# Altium integrated library Linear Technology PMIC-Switching Reg LTC1174-LTC3901.IntLib: 2647 symbols (part 233 of 310)
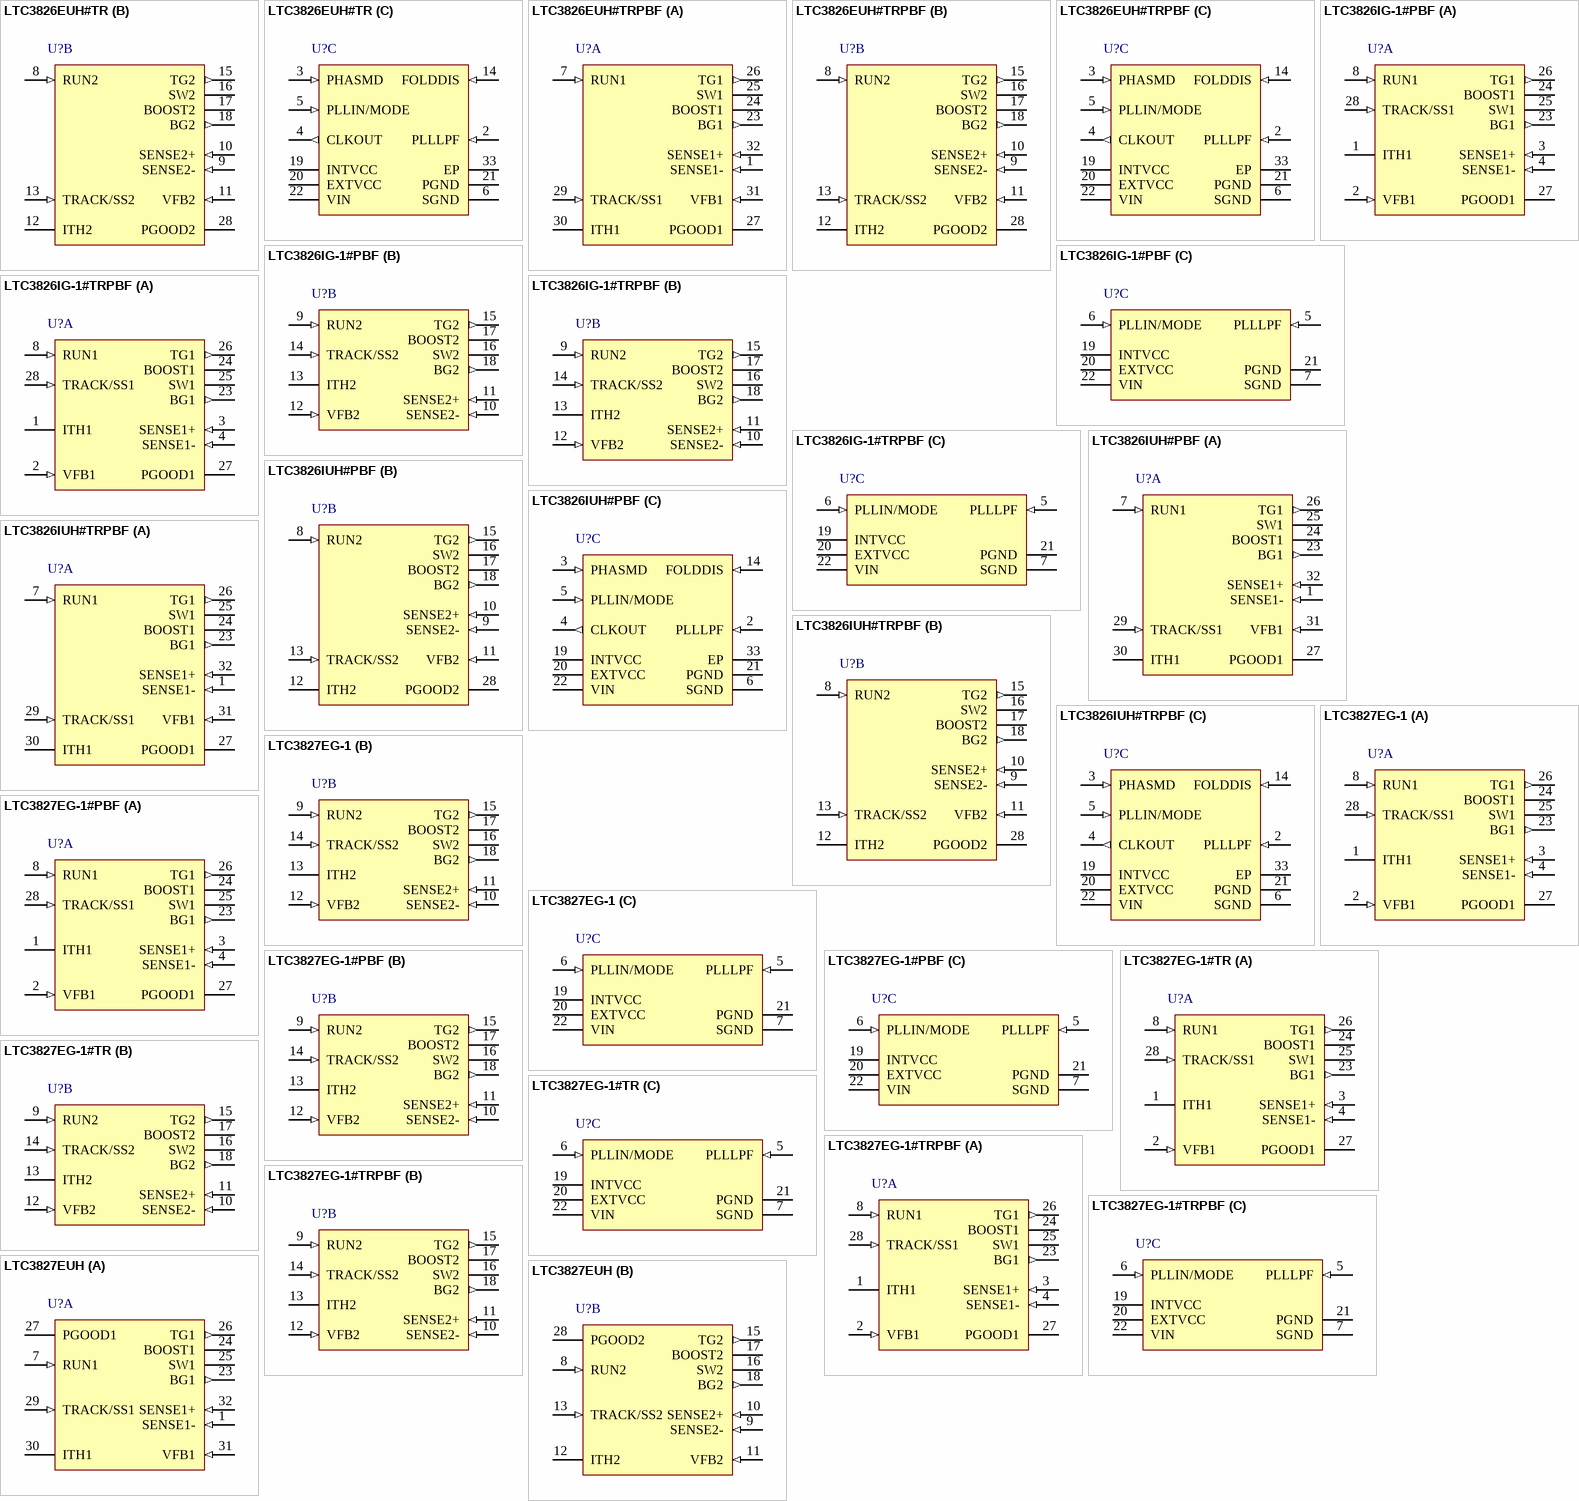
[diagram p252: symbols LTC3826EUH#TR to LTC3827EUH]

## LTC3826EUH#TR
designator U?
30 uA IQ, Dual, 2-Phase Synchronous Step-Down Controller, 32-pin QFN (UH-32), -40 to 85 degC, Tape and Reel; Manufacturer: Linear Technology; PartNumber: LTC3826EUH#TR; Number of Outputs: 2; PackageReference: UH-32; PackageDescription: 32-Pin Plastic QFN, Body 5 x 5 mm, Pitch 0.5 mm; RoHS: FALSE; Code_JEDEC: MO-220
footprint LT-UH-32_N (QFN, 32-Leads, Body 5.1x5.1mm, Pitch 0.5mm, Thermal Pad 3.45X3.45mm, IPC Medium Density)
footprint LT-UH-32_L (QFN, 32-Leads, Body 5.1x5.1mm, Pitch 0.5mm, Thermal Pad 3.45X3.45mm, IPC High Density)
footprint LT-UH-32_M (QFN, 32-Leads, Body 5.1x5.1mm, Pitch 0.5mm, Thermal Pad 3.45X3.45mm, IPC Low Density)
part A pins: 1 SENSE1- (in) "The (-) Input to the  Differential Current Comparators.", 7 RUN1 (in) "Digital Run Control Inputs for  Each Controller. Forcing either of these pins below 0.7V  shuts down that controller. Forcing both of these pins below  0.7V shuts down the entire LTC3826, reducing quiescent  current to (See Datasheet)", 23 BG1 (out) "High Current Gate Drives for Bottom (Synchronous) N-Channel MOSFETs. Voltage swing  at these pins is from ground to INTVCC.", 24 BOOST1 "Bootstrapped Supplies  to the Top Side Floating Drivers. Capacitors are connected  between the BOOST and SW pins and Schottky diodes are  tied between the BOOST and INTVCC pins. Voltage swing  at the BOOST pins is from (See Datasheet)", 25 SW1 "Switch Node Connections to  Inductors. Voltage swing at these pins is from a Schottky  diode (external) voltage drop below ground to VIN.", 26 TG1 (out) "High Current Gate Drives for  Top N-Channel MOSFETs. These are the outputs of ? oating drivers with a voltage swing equal to INTVCC - 0.5V  superimposed on the switch node voltage SW.", 27 PGOOD1 (oc) "Open-Drain Logic Output. PGOOD1 is  pulled to ground when the voltage on the VFB1 pin is not  within +/-10% of its set point.", 29 TRACK/SS1 (in) "External Tracking and Soft-Start Input. The LTC3826 regulates the  VFB1,2 voltage to the smaller of 0.8V or the voltage on the  TRACK/SS1,2 pin. An internal 1uA pull-up current source  is connected to this pin. A capacitor (See Datasheet)", 30 ITH1 "Error Ampli?er Outputs and  Switching Regulator Compensation Points. Each associated channel’s current comparator trip point increases  with this control voltage.", 31 VFB1 (in) "Receives the remotely sensed  feedback voltage for each controller from an external  resistive divider across the output.", 32 SENSE1+ (in) "The (+) Input to the  Differential Current Comparators. The ITH pin voltage and  controlled offsets between the SENSE-  and SENSE+  pins in  conjunction with RSENSE set the current trip threshold."
part B pins: 8 RUN2 (in) "Digital Run Control Inputs for  Each Controller. Forcing either of these pins below 0.7V  shuts down that controller. Forcing both of these pins below  0.7V shuts down the entire LTC3826, reducing quiescent  current to (See Datasheet)", 9 SENSE2- (in) "The (-) Input to the  Differential Current Comparators.", 10 SENSE2+ (in) "The (+) Input to the  Differential Current Comparators. The ITH pin voltage and  controlled offsets between the SENSE-  and SENSE+  pins in  conjunction with RSENSE set the current trip threshold.", 11 VFB2 (in) "Receives the remotely sensed  feedback voltage for each controller from an external  resistive divider across the output.", 12 ITH2 "Error Ampli?er Outputs and  Switching Regulator Compensation Points. Each associated channel’s current comparator trip point increases  with this control voltage.", 13 TRACK/SS2 (in) "External Tracking and Soft-Start Input. The LTC3826 regulates the  VFB1,2 voltage to the smaller of 0.8V or the voltage on the  TRACK/SS1,2 pin. An internal 1uA pull-up current source  is connected to this pin. A capacitor (See Datasheet)", 15 TG2 (out) "High Current Gate Drives for  Top N-Channel MOSFETs. These are the outputs of ? oating drivers with a voltage swing equal to INTVCC - 0.5V  superimposed on the switch node voltage SW.", 16 SW2 "Switch Node Connections to  Inductors. Voltage swing at these pins is from a Schottky  diode (external) voltage drop below ground to VIN.", 17 BOOST2 "Bootstrapped Supplies  to the Top Side Floating Drivers. Capacitors are connected  between the BOOST and SW pins and Schottky diodes are  tied between the BOOST and INTVCC pins. Voltage swing  at the BOOST pins is from (See Datasheet)", 18 BG2 (out) "High Current Gate Drives for Bottom (Synchronous) N-Channel MOSFETs. Voltage swing  at these pins is from ground to INTVCC.", 28 PGOOD2 (oc) "Open-Drain Logic Output. PGOOD2  is pulled to ground when the voltage on VFB2 pin is not  within +/-10% of its set point"
part C pins: 2 PLLLPF (in) "The phase-locked loop’s lowpass ? lter is  tied to this pin when synchronizing to an external clock.  Alternatively, tie this pin to GND, INTVCC or leave ? oating to  select 250kHz, 530kHz or 390kHz switching frequency.", 3 PHASMD (in) "Control Input to Phase Selector which  determines the phase relationships between controller 1,  controller 2 and the CLKOUT signal.", 4 CLKOUT (out) "Output Clock Signal available to daisychain other controller ICs for additional MOSFET driver  stages/phases.", 5 PLLIN/MODE (in) "External Synchronization Input to  Phase Detector and Forced Continuous Control Input. When  an external clock is applied to this pin, the phase-locked  loop will force the rising TG1 signal to be synchronized  with the (See Datasheet)", 6 SGND (power) "Small Signal Ground common to both  controllers, must be routed separately from high current  grounds to the common (-) terminals of the CIN capacitors. The Exposed Pad is SGND. It must be soldered to  PCB ground for rated (See Datasheet)", 14 FOLDDIS (in) "Foldback Current Disable Input Pin.  Driving this pin high (to INTVCC) disables foldback current  limiting during short-circuit or overcurrent conditions.", 19 INTVCC (power) "Output of the Internal Linear Low Dropout  Regulator. The driver and control circuits are powered  from this voltage source. Must be decoupled to power  ground with a minimum of 4.7uF tantalum or other low  ESR capacitor.", 20 EXTVCC (power) "External Power Input to an Internal LDO  Connected to INTVCC. This LDO supplies INTVCC power,  bypassing the internal LDO powered from VIN whenever  EXTVCC is higher than 4.7V. See EXTVCC Connection in  the Applications (See Datasheet)", 21 PGND (power) "Driver Power Ground. Connects to the  sources of bottom (synchronous) N-channel MOSFETs,  anodes of the Schottky recti? ers and the (-) terminal(s)  of CIN.", 22 VIN (power) "Main Supply Pin. A bypass capacitor should  be tied between this pin and the signal ground pin.", 33 EP (power) "Small Signal Ground common to both  controllers, must be routed separately from high current  grounds to the common (-) terminals of the CIN capacitors. The Exposed Pad is SGND. It must be soldered to  PCB ground for rated (See Datasheet)"

## LTC3826EUH#TRPBF
designator U?
30 uA IQ, Dual, 2-Phase Synchronous Step-Down Controller, 32-pin QFN (UH-32), -40 to 85 degC, Pb-Free, Tape and Reel; Manufacturer: Linear Technology; PartNumber: LTC3826EUH#TRPBF; Number of Outputs: 2; PackageReference: UH-32; PackageDescription: 32-Pin Plastic QFN, Body 5 x 5 mm, Pitch 0.5 mm; Supplier 1: Digi-Key; Supplier Part Number 1: LTC3826EUH#TRPBF-ND; RoHS: TRUE; Code_JEDEC: MO-220
footprint LT-UH-32_N (QFN, 32-Leads, Body 5.1x5.1mm, Pitch 0.5mm, Thermal Pad 3.45X3.45mm, IPC Medium Density)
footprint LT-UH-32_L (QFN, 32-Leads, Body 5.1x5.1mm, Pitch 0.5mm, Thermal Pad 3.45X3.45mm, IPC High Density)
footprint LT-UH-32_M (QFN, 32-Leads, Body 5.1x5.1mm, Pitch 0.5mm, Thermal Pad 3.45X3.45mm, IPC Low Density)
part A pins: 1 SENSE1- (in) "The (-) Input to the  Differential Current Comparators.", 7 RUN1 (in) "Digital Run Control Inputs for  Each Controller. Forcing either of these pins below 0.7V  shuts down that controller. Forcing both of these pins below  0.7V shuts down the entire LTC3826, reducing quiescent  current to (See Datasheet)", 23 BG1 (out) "High Current Gate Drives for Bottom (Synchronous) N-Channel MOSFETs. Voltage swing  at these pins is from ground to INTVCC.", 24 BOOST1 "Bootstrapped Supplies  to the Top Side Floating Drivers. Capacitors are connected  between the BOOST and SW pins and Schottky diodes are  tied between the BOOST and INTVCC pins. Voltage swing  at the BOOST pins is from (See Datasheet)", 25 SW1 "Switch Node Connections to  Inductors. Voltage swing at these pins is from a Schottky  diode (external) voltage drop below ground to VIN.", 26 TG1 (out) "High Current Gate Drives for  Top N-Channel MOSFETs. These are the outputs of ? oating drivers with a voltage swing equal to INTVCC - 0.5V  superimposed on the switch node voltage SW.", 27 PGOOD1 (oc) "Open-Drain Logic Output. PGOOD1 is  pulled to ground when the voltage on the VFB1 pin is not  within +/-10% of its set point.", 29 TRACK/SS1 (in) "External Tracking and Soft-Start Input. The LTC3826 regulates the  VFB1,2 voltage to the smaller of 0.8V or the voltage on the  TRACK/SS1,2 pin. An internal 1uA pull-up current source  is connected to this pin. A capacitor (See Datasheet)", 30 ITH1 "Error Ampli?er Outputs and  Switching Regulator Compensation Points. Each associated channel’s current comparator trip point increases  with this control voltage.", 31 VFB1 (in) "Receives the remotely sensed  feedback voltage for each controller from an external  resistive divider across the output.", 32 SENSE1+ (in) "The (+) Input to the  Differential Current Comparators. The ITH pin voltage and  controlled offsets between the SENSE-  and SENSE+  pins in  conjunction with RSENSE set the current trip threshold."
part B pins: 8 RUN2 (in) "Digital Run Control Inputs for  Each Controller. Forcing either of these pins below 0.7V  shuts down that controller. Forcing both of these pins below  0.7V shuts down the entire LTC3826, reducing quiescent  current to (See Datasheet)", 9 SENSE2- (in) "The (-) Input to the  Differential Current Comparators.", 10 SENSE2+ (in) "The (+) Input to the  Differential Current Comparators. The ITH pin voltage and  controlled offsets between the SENSE-  and SENSE+  pins in  conjunction with RSENSE set the current trip threshold.", 11 VFB2 (in) "Receives the remotely sensed  feedback voltage for each controller from an external  resistive divider across the output.", 12 ITH2 "Error Ampli?er Outputs and  Switching Regulator Compensation Points. Each associated channel’s current comparator trip point increases  with this control voltage.", 13 TRACK/SS2 (in) "External Tracking and Soft-Start Input. The LTC3826 regulates the  VFB1,2 voltage to the smaller of 0.8V or the voltage on the  TRACK/SS1,2 pin. An internal 1uA pull-up current source  is connected to this pin. A capacitor (See Datasheet)", 15 TG2 (out) "High Current Gate Drives for  Top N-Channel MOSFETs. These are the outputs of ? oating drivers with a voltage swing equal to INTVCC - 0.5V  superimposed on the switch node voltage SW.", 16 SW2 "Switch Node Connections to  Inductors. Voltage swing at these pins is from a Schottky  diode (external) voltage drop below ground to VIN.", 17 BOOST2 "Bootstrapped Supplies  to the Top Side Floating Drivers. Capacitors are connected  between the BOOST and SW pins and Schottky diodes are  tied between the BOOST and INTVCC pins. Voltage swing  at the BOOST pins is from (See Datasheet)", 18 BG2 (out) "High Current Gate Drives for Bottom (Synchronous) N-Channel MOSFETs. Voltage swing  at these pins is from ground to INTVCC.", 28 PGOOD2 (oc) "Open-Drain Logic Output. PGOOD2  is pulled to ground when the voltage on VFB2 pin is not  within +/-10% of its set point"
part C pins: 2 PLLLPF (in) "The phase-locked loop’s lowpass ? lter is  tied to this pin when synchronizing to an external clock.  Alternatively, tie this pin to GND, INTVCC or leave ? oating to  select 250kHz, 530kHz or 390kHz switching frequency.", 3 PHASMD (in) "Control Input to Phase Selector which  determines the phase relationships between controller 1,  controller 2 and the CLKOUT signal.", 4 CLKOUT (out) "Output Clock Signal available to daisychain other controller ICs for additional MOSFET driver  stages/phases.", 5 PLLIN/MODE (in) "External Synchronization Input to  Phase Detector and Forced Continuous Control Input. When  an external clock is applied to this pin, the phase-locked  loop will force the rising TG1 signal to be synchronized  with the (See Datasheet)", 6 SGND (power) "Small Signal Ground common to both  controllers, must be routed separately from high current  grounds to the common (-) terminals of the CIN capacitors. The Exposed Pad is SGND. It must be soldered to  PCB ground for rated (See Datasheet)", 14 FOLDDIS (in) "Foldback Current Disable Input Pin.  Driving this pin high (to INTVCC) disables foldback current  limiting during short-circuit or overcurrent conditions.", 19 INTVCC (power) "Output of the Internal Linear Low Dropout  Regulator. The driver and control circuits are powered  from this voltage source. Must be decoupled to power  ground with a minimum of 4.7uF tantalum or other low  ESR capacitor.", 20 EXTVCC (power) "External Power Input to an Internal LDO  Connected to INTVCC. This LDO supplies INTVCC power,  bypassing the internal LDO powered from VIN whenever  EXTVCC is higher than 4.7V. See EXTVCC Connection in  the Applications (See Datasheet)", 21 PGND (power) "Driver Power Ground. Connects to the  sources of bottom (synchronous) N-channel MOSFETs,  anodes of the Schottky recti? ers and the (-) terminal(s)  of CIN.", 22 VIN (power) "Main Supply Pin. A bypass capacitor should  be tied between this pin and the signal ground pin.", 33 EP (power) "Small Signal Ground common to both  controllers, must be routed separately from high current  grounds to the common (-) terminals of the CIN capacitors. The Exposed Pad is SGND. It must be soldered to  PCB ground for rated (See Datasheet)"

## LTC3826IG-1#PBF
designator U?
30 uA IQ, Dual, 2-Phase Synchronous Step-Down Controller, 28-pin SOP (G-28), -40 to 85 degC, Pb-Free; Manufacturer: Linear Technology; PartNumber: LTC3826IG-1#PBF; Number of Outputs: 2; PackageReference: G-28; PackageDescription: 28-Pin Plastic SSOP, Body 10.2 x 5.3 mm, Pitch 0.65 mm; Supplier 1: Digi-Key; Supplier Part Number 1: LTC3826IG-1#PBF-ND; RoHS: TRUE
footprint LT-G-28_N (SOP, 28-Leads, Body 10.2x5.3mm, Pitch 0.65mm, IPC Medium Density)
footprint LT-G-28_L (SOP, 28-Leads, Body 10.2x5.3mm, Pitch 0.65mm, IPC High Density)
footprint LT-G-28_M (SOP, 28-Leads, Body 10.2x5.3mm, Pitch 0.65mm, IPC Low Density)
part A pins: 1 ITH1 "Error Amplifier Outputs and Switching Regulator Compensation Points. Each associated channel’s current comparator trip point increases with this control voltage.", 2 VFB1 (in) "Receives the remotely sensed feedback voltage for each controller from an external resistive divider across the output.", 3 SENSE1+ (in) "The (+) Input to the Differential Current Comparators. The ITH pin voltage and controlled offsets between the SENSE- and SENSE+ pins in conjunction with RSENSE set the current trip threshold.", 4 SENSE1- (in) "The (-) Input to the Differential Current Comparators.", 8 RUN1 (in) "Digital Run Control Inputs for Each Controller. Forcing either of these pins below 0.7V shuts down that controller.", 23 BG1 (out) "High Current Gate Drives for Bottom (Synchronous) N-Channel MOSFETs. Voltage swing at these pins is from ground to INTVCC.", 24 BOOST1 "Bootstrapped Supplies to the Topside Floating Drivers. Capacitors are connected between the BOOST and SW pins and Schottky diodes are tied between the BOOST and INTVCC pins. Voltage swing at the BOOST pins is from INTVCC to (See Datasheet)", 25 SW1 "Switch Node Connections to Inductors. Voltage swing at these pins is from a Schottky diode (external) voltage drop below ground to VIN.", 26 TG1 (out) "High Current Gate Drives for Top N-Channel MOSFETs. These are the outputs of floating drivers with a voltage swing equal to INTVCC - 0.5V superimposed on the switch node voltage SW.", 27 PGOOD1 (oc) "Open-Drain Logic Output. PGOOD1 is pulled to ground when the voltage on the VFB1 pin is not within +/-10% of its set point.", 28 TRACK/SS1 (in) "External Tracking and Soft-Start Input."
part B pins: 9 RUN2 (in) "Digital Run Control Inputs for Each Controller. Forcing either of these pins below 0.7V shuts down that controller.", 10 SENSE2- (in) "The (-) Input to the Differential Current Comparators.", 11 SENSE2+ (in) "The (+) Input to the Differential Current Comparators. The ITH pin voltage and controlled offsets between the SENSE- and SENSE+ pins in conjunction with RSENSE set the current trip threshold.", 12 VFB2 (in) "Receives the remotely sensed feedback voltage for each controller from an external resistive divider across the output.", 13 ITH2 "Error Amplifier Outputs and Switching Regulator Compensation Points. Each associated channel’s current comparator trip point increases with this control voltage.", 14 TRACK/SS2 (in) "External Tracking and Soft-Start Input.", 15 TG2 (out) "High Current Gate Drives for Top N-Channel MOSFETs. These are the outputs of floating drivers with a voltage swing equal to INTVCC - 0.5V superimposed on the switch node voltage SW.", 16 SW2 "Switch Node Connections to Inductors. Voltage swing at these pins is from a Schottky diode (external) voltage drop below ground to VIN.", 17 BOOST2 "Bootstrapped Supplies to the Topside Floating Drivers. Capacitors are connected between the BOOST and SW pins and Schottky diodes are tied between the BOOST and INTVCC pins. Voltage swing at the BOOST pins is from INTVCC to (See Datasheet)", 18 BG2 (out) "High Current Gate Drives for Bottom (Synchronous) N-Channel MOSFETs. Voltage swing at these pins is from ground to INTVCC."
part C pins: 5 PLLLPF (in) "The phase-locked loop’s lowpass filter is tied to this pin when synchronizing to an external clock.", 6 PLLIN/MODE (in) "External Synchronization Input to Phase Detector and Forced Continuous Control Input.", 7 SGND (power) "Small-signal Ground common to both controllers, must be routed separately from high current grounds to the common (-) terminals of the CIN capacitors.", 19 INTVCC (power) "Output of the Internal Linear Low Dropout Regulator. The driver and control circuits are powered from this voltage source. Must be decoupled to power ground with a minimum of 4.7uF tantalum or other low ESR capacitor.", 20 EXTVCC (power) "External Power Input to an Internal LDO Connected to INTVCC. This LDO supplies INTVCC power, bypassing the internal LDO powered from VIN whenever EXTVCC is higher than 4.7V. See EXTVCC Connection in the Applications (See Datasheet)", 21 PGND (power) "Driver Power Ground. Connects to the sources of bottom (synchronous) N-channel MOSFETs, anodes of the Schottky rectifi ers and the (-) terminal(s) of CIN.", 22 VIN (power) "Main Supply Pin. A bypass capacitor should be tied between this pin and the signal ground pin."

## LTC3826IG-1#TRPBF
designator U?
30 uA IQ, Dual, 2-Phase Synchronous Step-Down Controller, 28-pin SOP (G-28), -40 to 85 degC, Pb-Free, Tape and Reel; Manufacturer: Linear Technology; PartNumber: LTC3826IG-1#TRPBF; Number of Outputs: 2; PackageReference: G-28; PackageDescription: 28-Pin Plastic SSOP, Body 10.2 x 5.3 mm, Pitch 0.65 mm; Supplier 1: Digi-Key; Supplier Part Number 1: LTC3826IG-1#TRPBF-ND; RoHS: TRUE
footprint LT-G-28_N (SOP, 28-Leads, Body 10.2x5.3mm, Pitch 0.65mm, IPC Medium Density)
footprint LT-G-28_L (SOP, 28-Leads, Body 10.2x5.3mm, Pitch 0.65mm, IPC High Density)
footprint LT-G-28_M (SOP, 28-Leads, Body 10.2x5.3mm, Pitch 0.65mm, IPC Low Density)
part A pins: 1 ITH1 "Error Amplifier Outputs and Switching Regulator Compensation Points. Each associated channel’s current comparator trip point increases with this control voltage.", 2 VFB1 (in) "Receives the remotely sensed feedback voltage for each controller from an external resistive divider across the output.", 3 SENSE1+ (in) "The (+) Input to the Differential Current Comparators. The ITH pin voltage and controlled offsets between the SENSE- and SENSE+ pins in conjunction with RSENSE set the current trip threshold.", 4 SENSE1- (in) "The (-) Input to the Differential Current Comparators.", 8 RUN1 (in) "Digital Run Control Inputs for Each Controller. Forcing either of these pins below 0.7V shuts down that controller.", 23 BG1 (out) "High Current Gate Drives for Bottom (Synchronous) N-Channel MOSFETs. Voltage swing at these pins is from ground to INTVCC.", 24 BOOST1 "Bootstrapped Supplies to the Topside Floating Drivers. Capacitors are connected between the BOOST and SW pins and Schottky diodes are tied between the BOOST and INTVCC pins. Voltage swing at the BOOST pins is from INTVCC to (See Datasheet)", 25 SW1 "Switch Node Connections to Inductors. Voltage swing at these pins is from a Schottky diode (external) voltage drop below ground to VIN.", 26 TG1 (out) "High Current Gate Drives for Top N-Channel MOSFETs. These are the outputs of floating drivers with a voltage swing equal to INTVCC - 0.5V superimposed on the switch node voltage SW.", 27 PGOOD1 (oc) "Open-Drain Logic Output. PGOOD1 is pulled to ground when the voltage on the VFB1 pin is not within +/-10% of its set point.", 28 TRACK/SS1 (in) "External Tracking and Soft-Start Input."
part B pins: 9 RUN2 (in) "Digital Run Control Inputs for Each Controller. Forcing either of these pins below 0.7V shuts down that controller.", 10 SENSE2- (in) "The (-) Input to the Differential Current Comparators.", 11 SENSE2+ (in) "The (+) Input to the Differential Current Comparators. The ITH pin voltage and controlled offsets between the SENSE- and SENSE+ pins in conjunction with RSENSE set the current trip threshold.", 12 VFB2 (in) "Receives the remotely sensed feedback voltage for each controller from an external resistive divider across the output.", 13 ITH2 "Error Amplifier Outputs and Switching Regulator Compensation Points. Each associated channel’s current comparator trip point increases with this control voltage.", 14 TRACK/SS2 (in) "External Tracking and Soft-Start Input.", 15 TG2 (out) "High Current Gate Drives for Top N-Channel MOSFETs. These are the outputs of floating drivers with a voltage swing equal to INTVCC - 0.5V superimposed on the switch node voltage SW.", 16 SW2 "Switch Node Connections to Inductors. Voltage swing at these pins is from a Schottky diode (external) voltage drop below ground to VIN.", 17 BOOST2 "Bootstrapped Supplies to the Topside Floating Drivers. Capacitors are connected between the BOOST and SW pins and Schottky diodes are tied between the BOOST and INTVCC pins. Voltage swing at the BOOST pins is from INTVCC to (See Datasheet)", 18 BG2 (out) "High Current Gate Drives for Bottom (Synchronous) N-Channel MOSFETs. Voltage swing at these pins is from ground to INTVCC."
part C pins: 5 PLLLPF (in) "The phase-locked loop’s lowpass filter is tied to this pin when synchronizing to an external clock.", 6 PLLIN/MODE (in) "External Synchronization Input to Phase Detector and Forced Continuous Control Input.", 7 SGND (power) "Small-signal Ground common to both controllers, must be routed separately from high current grounds to the common (-) terminals of the CIN capacitors.", 19 INTVCC (power) "Output of the Internal Linear Low Dropout Regulator. The driver and control circuits are powered from this voltage source. Must be decoupled to power ground with a minimum of 4.7uF tantalum or other low ESR capacitor.", 20 EXTVCC (power) "External Power Input to an Internal LDO Connected to INTVCC. This LDO supplies INTVCC power, bypassing the internal LDO powered from VIN whenever EXTVCC is higher than 4.7V. See EXTVCC Connection in the Applications (See Datasheet)", 21 PGND (power) "Driver Power Ground. Connects to the sources of bottom (synchronous) N-channel MOSFETs, anodes of the Schottky rectifi ers and the (-) terminal(s) of CIN.", 22 VIN (power) "Main Supply Pin. A bypass capacitor should be tied between this pin and the signal ground pin."

## LTC3826IUH#PBF
designator U?
30 uA IQ, Dual, 2-Phase Synchronous Step-Down Controller, 32-pin QFN (UH-32), -40 to 85 degC, Pb-Free; Manufacturer: Linear Technology; PartNumber: LTC3826IUH#PBF; Number of Outputs: 2; PackageReference: UH-32; PackageDescription: 32-Pin Plastic QFN, Body 5 x 5 mm, Pitch 0.5 mm; Supplier 1: Digi-Key; Supplier Part Number 1: LTC3826IUH#PBF-ND; RoHS: TRUE; Code_JEDEC: MO-220
footprint LT-UH-32_N (QFN, 32-Leads, Body 5.1x5.1mm, Pitch 0.5mm, Thermal Pad 3.45X3.45mm, IPC Medium Density)
footprint LT-UH-32_L (QFN, 32-Leads, Body 5.1x5.1mm, Pitch 0.5mm, Thermal Pad 3.45X3.45mm, IPC High Density)
footprint LT-UH-32_M (QFN, 32-Leads, Body 5.1x5.1mm, Pitch 0.5mm, Thermal Pad 3.45X3.45mm, IPC Low Density)
part A pins: 1 SENSE1- (in) "The (-) Input to the  Differential Current Comparators.", 7 RUN1 (in) "Digital Run Control Inputs for  Each Controller. Forcing either of these pins below 0.7V  shuts down that controller. Forcing both of these pins below  0.7V shuts down the entire LTC3826, reducing quiescent  current to (See Datasheet)", 23 BG1 (out) "High Current Gate Drives for Bottom (Synchronous) N-Channel MOSFETs. Voltage swing  at these pins is from ground to INTVCC.", 24 BOOST1 "Bootstrapped Supplies  to the Top Side Floating Drivers. Capacitors are connected  between the BOOST and SW pins and Schottky diodes are  tied between the BOOST and INTVCC pins. Voltage swing  at the BOOST pins is from (See Datasheet)", 25 SW1 "Switch Node Connections to  Inductors. Voltage swing at these pins is from a Schottky  diode (external) voltage drop below ground to VIN.", 26 TG1 (out) "High Current Gate Drives for  Top N-Channel MOSFETs. These are the outputs of ? oating drivers with a voltage swing equal to INTVCC - 0.5V  superimposed on the switch node voltage SW.", 27 PGOOD1 (oc) "Open-Drain Logic Output. PGOOD1 is  pulled to ground when the voltage on the VFB1 pin is not  within +/-10% of its set point.", 29 TRACK/SS1 (in) "External Tracking and Soft-Start Input. The LTC3826 regulates the  VFB1,2 voltage to the smaller of 0.8V or the voltage on the  TRACK/SS1,2 pin. An internal 1uA pull-up current source  is connected to this pin. A capacitor (See Datasheet)", 30 ITH1 "Error Ampli?er Outputs and  Switching Regulator Compensation Points. Each associated channel’s current comparator trip point increases  with this control voltage.", 31 VFB1 (in) "Receives the remotely sensed  feedback voltage for each controller from an external  resistive divider across the output.", 32 SENSE1+ (in) "The (+) Input to the  Differential Current Comparators. The ITH pin voltage and  controlled offsets between the SENSE-  and SENSE+  pins in  conjunction with RSENSE set the current trip threshold."
part B pins: 8 RUN2 (in) "Digital Run Control Inputs for  Each Controller. Forcing either of these pins below 0.7V  shuts down that controller. Forcing both of these pins below  0.7V shuts down the entire LTC3826, reducing quiescent  current to (See Datasheet)", 9 SENSE2- (in) "The (-) Input to the  Differential Current Comparators.", 10 SENSE2+ (in) "The (+) Input to the  Differential Current Comparators. The ITH pin voltage and  controlled offsets between the SENSE-  and SENSE+  pins in  conjunction with RSENSE set the current trip threshold.", 11 VFB2 (in) "Receives the remotely sensed  feedback voltage for each controller from an external  resistive divider across the output.", 12 ITH2 "Error Ampli?er Outputs and  Switching Regulator Compensation Points. Each associated channel’s current comparator trip point increases  with this control voltage.", 13 TRACK/SS2 (in) "External Tracking and Soft-Start Input. The LTC3826 regulates the  VFB1,2 voltage to the smaller of 0.8V or the voltage on the  TRACK/SS1,2 pin. An internal 1uA pull-up current source  is connected to this pin. A capacitor (See Datasheet)", 15 TG2 (out) "High Current Gate Drives for  Top N-Channel MOSFETs. These are the outputs of ? oating drivers with a voltage swing equal to INTVCC - 0.5V  superimposed on the switch node voltage SW.", 16 SW2 "Switch Node Connections to  Inductors. Voltage swing at these pins is from a Schottky  diode (external) voltage drop below ground to VIN.", 17 BOOST2 "Bootstrapped Supplies  to the Top Side Floating Drivers. Capacitors are connected  between the BOOST and SW pins and Schottky diodes are  tied between the BOOST and INTVCC pins. Voltage swing  at the BOOST pins is from (See Datasheet)", 18 BG2 (out) "High Current Gate Drives for Bottom (Synchronous) N-Channel MOSFETs. Voltage swing  at these pins is from ground to INTVCC.", 28 PGOOD2 (oc) "Open-Drain Logic Output. PGOOD2  is pulled to ground when the voltage on VFB2 pin is not  within +/-10% of its set point"
part C pins: 2 PLLLPF (in) "The phase-locked loop’s lowpass ? lter is  tied to this pin when synchronizing to an external clock.  Alternatively, tie this pin to GND, INTVCC or leave ? oating to  select 250kHz, 530kHz or 390kHz switching frequency.", 3 PHASMD (in) "Control Input to Phase Selector which  determines the phase relationships between controller 1,  controller 2 and the CLKOUT signal.", 4 CLKOUT (out) "Output Clock Signal available to daisychain other controller ICs for additional MOSFET driver  stages/phases.", 5 PLLIN/MODE (in) "External Synchronization Input to  Phase Detector and Forced Continuous Control Input. When  an external clock is applied to this pin, the phase-locked  loop will force the rising TG1 signal to be synchronized  with the (See Datasheet)", 6 SGND (power) "Small Signal Ground common to both  controllers, must be routed separately from high current  grounds to the common (-) terminals of the CIN capacitors. The Exposed Pad is SGND. It must be soldered to  PCB ground for rated (See Datasheet)", 14 FOLDDIS (in) "Foldback Current Disable Input Pin.  Driving this pin high (to INTVCC) disables foldback current  limiting during short-circuit or overcurrent conditions.", 19 INTVCC (power) "Output of the Internal Linear Low Dropout  Regulator. The driver and control circuits are powered  from this voltage source. Must be decoupled to power  ground with a minimum of 4.7uF tantalum or other low  ESR capacitor.", 20 EXTVCC (power) "External Power Input to an Internal LDO  Connected to INTVCC. This LDO supplies INTVCC power,  bypassing the internal LDO powered from VIN whenever  EXTVCC is higher than 4.7V. See EXTVCC Connection in  the Applications (See Datasheet)", 21 PGND (power) "Driver Power Ground. Connects to the  sources of bottom (synchronous) N-channel MOSFETs,  anodes of the Schottky recti? ers and the (-) terminal(s)  of CIN.", 22 VIN (power) "Main Supply Pin. A bypass capacitor should  be tied between this pin and the signal ground pin.", 33 EP (power) "Small Signal Ground common to both  controllers, must be routed separately from high current  grounds to the common (-) terminals of the CIN capacitors. The Exposed Pad is SGND. It must be soldered to  PCB ground for rated (See Datasheet)"

## LTC3826IUH#TRPBF
designator U?
30 uA IQ, Dual, 2-Phase Synchronous Step-Down Controller, 32-pin QFN (UH-32), -40 to 85 degC, Pb-Free, Tape and Reel; Manufacturer: Linear Technology; PartNumber: LTC3826IUH#TRPBF; Number of Outputs: 2; PackageReference: UH-32; PackageDescription: 32-Pin Plastic QFN, Body 5 x 5 mm, Pitch 0.5 mm; Supplier 1: Digi-Key; Supplier Part Number 1: LTC3826IUH#TRPBF-ND; RoHS: TRUE; Code_JEDEC: MO-220
footprint LT-UH-32_N (QFN, 32-Leads, Body 5.1x5.1mm, Pitch 0.5mm, Thermal Pad 3.45X3.45mm, IPC Medium Density)
footprint LT-UH-32_L (QFN, 32-Leads, Body 5.1x5.1mm, Pitch 0.5mm, Thermal Pad 3.45X3.45mm, IPC High Density)
footprint LT-UH-32_M (QFN, 32-Leads, Body 5.1x5.1mm, Pitch 0.5mm, Thermal Pad 3.45X3.45mm, IPC Low Density)
part A pins: 1 SENSE1- (in) "The (-) Input to the  Differential Current Comparators.", 7 RUN1 (in) "Digital Run Control Inputs for  Each Controller. Forcing either of these pins below 0.7V  shuts down that controller. Forcing both of these pins below  0.7V shuts down the entire LTC3826, reducing quiescent  current to (See Datasheet)", 23 BG1 (out) "High Current Gate Drives for Bottom (Synchronous) N-Channel MOSFETs. Voltage swing  at these pins is from ground to INTVCC.", 24 BOOST1 "Bootstrapped Supplies  to the Top Side Floating Drivers. Capacitors are connected  between the BOOST and SW pins and Schottky diodes are  tied between the BOOST and INTVCC pins. Voltage swing  at the BOOST pins is from (See Datasheet)", 25 SW1 "Switch Node Connections to  Inductors. Voltage swing at these pins is from a Schottky  diode (external) voltage drop below ground to VIN.", 26 TG1 (out) "High Current Gate Drives for  Top N-Channel MOSFETs. These are the outputs of ? oating drivers with a voltage swing equal to INTVCC - 0.5V  superimposed on the switch node voltage SW.", 27 PGOOD1 (oc) "Open-Drain Logic Output. PGOOD1 is  pulled to ground when the voltage on the VFB1 pin is not  within +/-10% of its set point.", 29 TRACK/SS1 (in) "External Tracking and Soft-Start Input. The LTC3826 regulates the  VFB1,2 voltage to the smaller of 0.8V or the voltage on the  TRACK/SS1,2 pin. An internal 1uA pull-up current source  is connected to this pin. A capacitor (See Datasheet)", 30 ITH1 "Error Ampli?er Outputs and  Switching Regulator Compensation Points. Each associated channel’s current comparator trip point increases  with this control voltage.", 31 VFB1 (in) "Receives the remotely sensed  feedback voltage for each controller from an external  resistive divider across the output.", 32 SENSE1+ (in) "The (+) Input to the  Differential Current Comparators. The ITH pin voltage and  controlled offsets between the SENSE-  and SENSE+  pins in  conjunction with RSENSE set the current trip threshold."
part B pins: 8 RUN2 (in) "Digital Run Control Inputs for  Each Controller. Forcing either of these pins below 0.7V  shuts down that controller. Forcing both of these pins below  0.7V shuts down the entire LTC3826, reducing quiescent  current to (See Datasheet)", 9 SENSE2- (in) "The (-) Input to the  Differential Current Comparators.", 10 SENSE2+ (in) "The (+) Input to the  Differential Current Comparators. The ITH pin voltage and  controlled offsets between the SENSE-  and SENSE+  pins in  conjunction with RSENSE set the current trip threshold.", 11 VFB2 (in) "Receives the remotely sensed  feedback voltage for each controller from an external  resistive divider across the output.", 12 ITH2 "Error Ampli?er Outputs and  Switching Regulator Compensation Points. Each associated channel’s current comparator trip point increases  with this control voltage.", 13 TRACK/SS2 (in) "External Tracking and Soft-Start Input. The LTC3826 regulates the  VFB1,2 voltage to the smaller of 0.8V or the voltage on the  TRACK/SS1,2 pin. An internal 1uA pull-up current source  is connected to this pin. A capacitor (See Datasheet)", 15 TG2 (out) "High Current Gate Drives for  Top N-Channel MOSFETs. These are the outputs of ? oating drivers with a voltage swing equal to INTVCC - 0.5V  superimposed on the switch node voltage SW.", 16 SW2 "Switch Node Connections to  Inductors. Voltage swing at these pins is from a Schottky  diode (external) voltage drop below ground to VIN.", 17 BOOST2 "Bootstrapped Supplies  to the Top Side Floating Drivers. Capacitors are connected  between the BOOST and SW pins and Schottky diodes are  tied between the BOOST and INTVCC pins. Voltage swing  at the BOOST pins is from (See Datasheet)", 18 BG2 (out) "High Current Gate Drives for Bottom (Synchronous) N-Channel MOSFETs. Voltage swing  at these pins is from ground to INTVCC.", 28 PGOOD2 (oc) "Open-Drain Logic Output. PGOOD2  is pulled to ground when the voltage on VFB2 pin is not  within +/-10% of its set point"
part C pins: 2 PLLLPF (in) "The phase-locked loop’s lowpass ? lter is  tied to this pin when synchronizing to an external clock.  Alternatively, tie this pin to GND, INTVCC or leave ? oating to  select 250kHz, 530kHz or 390kHz switching frequency.", 3 PHASMD (in) "Control Input to Phase Selector which  determines the phase relationships between controller 1,  controller 2 and the CLKOUT signal.", 4 CLKOUT (out) "Output Clock Signal available to daisychain other controller ICs for additional MOSFET driver  stages/phases.", 5 PLLIN/MODE (in) "External Synchronization Input to  Phase Detector and Forced Continuous Control Input. When  an external clock is applied to this pin, the phase-locked  loop will force the rising TG1 signal to be synchronized  with the (See Datasheet)", 6 SGND (power) "Small Signal Ground common to both  controllers, must be routed separately from high current  grounds to the common (-) terminals of the CIN capacitors. The Exposed Pad is SGND. It must be soldered to  PCB ground for rated (See Datasheet)", 14 FOLDDIS (in) "Foldback Current Disable Input Pin.  Driving this pin high (to INTVCC) disables foldback current  limiting during short-circuit or overcurrent conditions.", 19 INTVCC (power) "Output of the Internal Linear Low Dropout  Regulator. The driver and control circuits are powered  from this voltage source. Must be decoupled to power  ground with a minimum of 4.7uF tantalum or other low  ESR capacitor.", 20 EXTVCC (power) "External Power Input to an Internal LDO  Connected to INTVCC. This LDO supplies INTVCC power,  bypassing the internal LDO powered from VIN whenever  EXTVCC is higher than 4.7V. See EXTVCC Connection in  the Applications (See Datasheet)", 21 PGND (power) "Driver Power Ground. Connects to the  sources of bottom (synchronous) N-channel MOSFETs,  anodes of the Schottky recti? ers and the (-) terminal(s)  of CIN.", 22 VIN (power) "Main Supply Pin. A bypass capacitor should  be tied between this pin and the signal ground pin.", 33 EP (power) "Small Signal Ground common to both  controllers, must be routed separately from high current  grounds to the common (-) terminals of the CIN capacitors. The Exposed Pad is SGND. It must be soldered to  PCB ground for rated (See Datasheet)"

## LTC3827EG-1
designator U?
Low IQ, Dual, 2-Phase Synchronous Controller, 28-pin SOP (G-28), -40 to 85 degC; Manufacturer: Linear Technology; PartNumber: LTC3827EG-1; Number of Outputs: 2; PackageReference: G-28; PackageDescription: 28-Pin Plastic SSOP, Body 10.2 x 5.3 mm, Pitch 0.65 mm; RoHS: FALSE
footprint LT-G-28_N (SOP, 28-Leads, Body 10.2x5.3mm, Pitch 0.65mm, IPC Medium Density)
footprint LT-G-28_L (SOP, 28-Leads, Body 10.2x5.3mm, Pitch 0.65mm, IPC High Density)
footprint LT-G-28_M (SOP, 28-Leads, Body 10.2x5.3mm, Pitch 0.65mm, IPC Low Density)
part A pins: 1 ITH1 "Error Amplifier Outputs and Switching Regulator Compensation Points. Each associated channel’s current comparator trip point increases with this control voltage.", 2 VFB1 (in) "Receives the remotely sensed feedback voltage for each controller from an external resistive divider across the output.", 3 SENSE1+ (in) "The (+) Input to the Differential Current Comparators. The ITH pin voltage and controlled offsets between the SENSE- and SENSE+ pins in conjunction with RSENSE set the current trip threshold.", 4 SENSE1- (in) "The (-) Input to the Differential Current Comparators.", 8 RUN1 (in) "Digital Run Control Inputs for Each Controller. Forcing either of these pins below 0.7V shuts down that controller.", 23 BG1 (out) "High Current Gate Drives for Bottom (Synchronous) N-Channel MOSFETs. Voltage swing at these pins is from ground to INTVCC.", 24 BOOST1 "Bootstrapped Supplies to the Topside Floating Drivers. Capacitors are connected between the BOOST and SW pins and Schottky diodes are tied between the BOOST and INTVCC pins. Voltage swing at the BOOST pins is from INTVCC to (See Datasheet)", 25 SW1 "Switch Node Connections to Inductors. Voltage swing at these pins is from a Schottky diode (external) voltage drop below ground to VIN.", 26 TG1 (out) "High Current Gate Drives for Top N-Channel MOSFETs. These are the outputs of floating drivers with a voltage swing equal to INTVCC - 0.5V superimposed on the switch node voltage SW.", 27 PGOOD1 (oc) "Open-Drain Logic Output. PGOOD1 is pulled to ground when the voltage on the VFB1 pin is not within +/-10% of its set point.", 28 TRACK/SS1 (in) "External Tracking and Soft-Start Input."
part B pins: 9 RUN2 (in) "Digital Run Control Inputs for Each Controller. Forcing either of these pins below 0.7V shuts down that controller.", 10 SENSE2- (in) "The (-) Input to the Differential Current Comparators.", 11 SENSE2+ (in) "The (+) Input to the Differential Current Comparators. The ITH pin voltage and controlled offsets between the SENSE- and SENSE+ pins in conjunction with RSENSE set the current trip threshold.", 12 VFB2 (in) "Receives the remotely sensed feedback voltage for each controller from an external resistive divider across the output.", 13 ITH2 "Error Amplifier Outputs and Switching Regulator Compensation Points. Each associated channel’s current comparator trip point increases with this control voltage.", 14 TRACK/SS2 (in) "External Tracking and Soft-Start Input.", 15 TG2 (out) "High Current Gate Drives for Top N-Channel MOSFETs. These are the outputs of floating drivers with a voltage swing equal to INTVCC - 0.5V superimposed on the switch node voltage SW.", 16 SW2 "Switch Node Connections to Inductors. Voltage swing at these pins is from a Schottky diode (external) voltage drop below ground to VIN.", 17 BOOST2 "Bootstrapped Supplies to the Topside Floating Drivers. Capacitors are connected between the BOOST and SW pins and Schottky diodes are tied between the BOOST and INTVCC pins. Voltage swing at the BOOST pins is from INTVCC to (See Datasheet)", 18 BG2 (out) "High Current Gate Drives for Bottom (Synchronous) N-Channel MOSFETs. Voltage swing at these pins is from ground to INTVCC."
part C pins: 5 PLLLPF (in) "The phase-locked loop’s lowpass filter is tied to this pin when synchronizing to an external clock.", 6 PLLIN/MODE (in) "External Synchronization Input to Phase Detector and Forced Continuous Control Input.", 7 SGND (power) "Small-signal Ground common to both controllers, must be routed separately from high current grounds to the common (-) terminals of the CIN capacitors.", 19 INTVCC (power) "Output of the Internal Linear Low Dropout Regulator. The driver and control circuits are powered from this voltage source. Must be decoupled to power ground with a minimum of 4.7uF tantalum or other low ESR capacitor.", 20 EXTVCC (power) "External Power Input to an Internal LDO Connected to INTVCC. This LDO supplies INTVCC power, bypassing the internal LDO powered from VIN whenever EXTVCC is higher than 4.7V. See EXTVCC Connection in the Applications (See Datasheet)", 21 PGND (power) "Driver Power Ground. Connects to the sources of bottom (synchronous) N-channel MOSFETs, anodes of the Schottky rectifi ers and the (-) terminal(s) of CIN.", 22 VIN (power) "Main Supply Pin. A bypass capacitor should be tied between this pin and the signal ground pin."

## LTC3827EG-1#PBF
designator U?
Low IQ, Dual, 2-Phase Synchronous Controller, 28-pin SOP (G-28), -40 to 85 degC, Pb-Free; Manufacturer: Linear Technology; PartNumber: LTC3827EG-1#PBF; Number of Outputs: 2; PackageReference: G-28; PackageDescription: 28-Pin Plastic SSOP, Body 10.2 x 5.3 mm, Pitch 0.65 mm; Supplier 1: Digi-Key; Supplier Part Number 1: LTC3827EG-1#PBF-ND; RoHS: TRUE
footprint LT-G-28_N (SOP, 28-Leads, Body 10.2x5.3mm, Pitch 0.65mm, IPC Medium Density)
footprint LT-G-28_L (SOP, 28-Leads, Body 10.2x5.3mm, Pitch 0.65mm, IPC High Density)
footprint LT-G-28_M (SOP, 28-Leads, Body 10.2x5.3mm, Pitch 0.65mm, IPC Low Density)
part A pins: 1 ITH1 "Error Amplifier Outputs and Switching Regulator Compensation Points. Each associated channel’s current comparator trip point increases with this control voltage.", 2 VFB1 (in) "Receives the remotely sensed feedback voltage for each controller from an external resistive divider across the output.", 3 SENSE1+ (in) "The (+) Input to the Differential Current Comparators. The ITH pin voltage and controlled offsets between the SENSE- and SENSE+ pins in conjunction with RSENSE set the current trip threshold.", 4 SENSE1- (in) "The (-) Input to the Differential Current Comparators.", 8 RUN1 (in) "Digital Run Control Inputs for Each Controller. Forcing either of these pins below 0.7V shuts down that controller.", 23 BG1 (out) "High Current Gate Drives for Bottom (Synchronous) N-Channel MOSFETs. Voltage swing at these pins is from ground to INTVCC.", 24 BOOST1 "Bootstrapped Supplies to the Topside Floating Drivers. Capacitors are connected between the BOOST and SW pins and Schottky diodes are tied between the BOOST and INTVCC pins. Voltage swing at the BOOST pins is from INTVCC to (See Datasheet)", 25 SW1 "Switch Node Connections to Inductors. Voltage swing at these pins is from a Schottky diode (external) voltage drop below ground to VIN.", 26 TG1 (out) "High Current Gate Drives for Top N-Channel MOSFETs. These are the outputs of floating drivers with a voltage swing equal to INTVCC - 0.5V superimposed on the switch node voltage SW.", 27 PGOOD1 (oc) "Open-Drain Logic Output. PGOOD1 is pulled to ground when the voltage on the VFB1 pin is not within +/-10% of its set point.", 28 TRACK/SS1 (in) "External Tracking and Soft-Start Input."
part B pins: 9 RUN2 (in) "Digital Run Control Inputs for Each Controller. Forcing either of these pins below 0.7V shuts down that controller.", 10 SENSE2- (in) "The (-) Input to the Differential Current Comparators.", 11 SENSE2+ (in) "The (+) Input to the Differential Current Comparators. The ITH pin voltage and controlled offsets between the SENSE- and SENSE+ pins in conjunction with RSENSE set the current trip threshold.", 12 VFB2 (in) "Receives the remotely sensed feedback voltage for each controller from an external resistive divider across the output.", 13 ITH2 "Error Amplifier Outputs and Switching Regulator Compensation Points. Each associated channel’s current comparator trip point increases with this control voltage.", 14 TRACK/SS2 (in) "External Tracking and Soft-Start Input.", 15 TG2 (out) "High Current Gate Drives for Top N-Channel MOSFETs. These are the outputs of floating drivers with a voltage swing equal to INTVCC - 0.5V superimposed on the switch node voltage SW.", 16 SW2 "Switch Node Connections to Inductors. Voltage swing at these pins is from a Schottky diode (external) voltage drop below ground to VIN.", 17 BOOST2 "Bootstrapped Supplies to the Topside Floating Drivers. Capacitors are connected between the BOOST and SW pins and Schottky diodes are tied between the BOOST and INTVCC pins. Voltage swing at the BOOST pins is from INTVCC to (See Datasheet)", 18 BG2 (out) "High Current Gate Drives for Bottom (Synchronous) N-Channel MOSFETs. Voltage swing at these pins is from ground to INTVCC."
part C pins: 5 PLLLPF (in) "The phase-locked loop’s lowpass filter is tied to this pin when synchronizing to an external clock.", 6 PLLIN/MODE (in) "External Synchronization Input to Phase Detector and Forced Continuous Control Input.", 7 SGND (power) "Small-signal Ground common to both controllers, must be routed separately from high current grounds to the common (-) terminals of the CIN capacitors.", 19 INTVCC (power) "Output of the Internal Linear Low Dropout Regulator. The driver and control circuits are powered from this voltage source. Must be decoupled to power ground with a minimum of 4.7uF tantalum or other low ESR capacitor.", 20 EXTVCC (power) "External Power Input to an Internal LDO Connected to INTVCC. This LDO supplies INTVCC power, bypassing the internal LDO powered from VIN whenever EXTVCC is higher than 4.7V. See EXTVCC Connection in the Applications (See Datasheet)", 21 PGND (power) "Driver Power Ground. Connects to the sources of bottom (synchronous) N-channel MOSFETs, anodes of the Schottky rectifi ers and the (-) terminal(s) of CIN.", 22 VIN (power) "Main Supply Pin. A bypass capacitor should be tied between this pin and the signal ground pin."